# EAGLE library part TP223 (library misc)
1 KEY TOUCH PAD DETECTOR IC
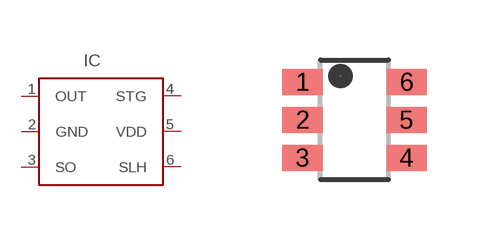
[diagram p52: symbol with the pads of SOT23-6; footprint SOT23-6]

Designator prefix IC

## TP223 (LCSC#: C42422128; MANF: TDSEMIC; MANF#: TTP223-TD)  [SOT23-6]
1  OUT
2  GND
3  SO
4  STG
5  VDD
6  SLH

## Footprint SOT23-6 (pad centres in mm)
smd 1 x 0.65: 1 -1.3,0.95; 2 -1.3,0; 3 -1.3,-0.95; 4 1.3,-0.95; 5 1.3,0; 6 1.3,0.95